# Altium schematic symbol library MIC24085 Reference.SchLib: 2 symbols
Pins are listed as number, name and electrical type; pins without a type are passive.

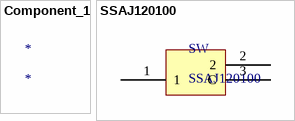
[diagram p0: symbols Component_1 to SSAJ120100]

## Component_1
designator *

## SSAJ120100
designator SW
Slide Switch SMD
footprint SSAJ120100
pins: 1, 2, 3 C